# Altium schematic symbol library DSUB_Connector.SchLib: 1 symbol
Pins are listed as number, name and electrical type; pins without a type are passive.

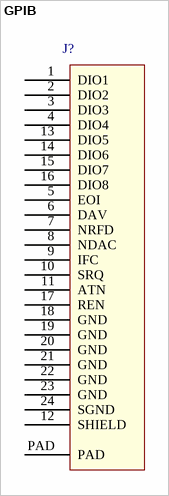
[diagram p0: symbol GPIB]

## GPIB
designator J?  (value not drawn)
112-024-113R001
footprint GPIB THT (DXP://VaultExplorer:Navigate_URL?Plugin=Search&VaultGUID=B7D15EC3-160A-466F-A46C-7801FE6295A7&SavedSearchGUID=&GenericFilter=DXP://VaultExplorer:Navigate_URL?VaultGUID=B7D15EC3-160A-466F-A46C-7801FE6295A7&Plugin=Folders&FolderPath=112-024-113r001&Nav_ForceRefresh:=True&UserDefinedBrowseItemsOption_0:=0&UserDefinedBrowseItemsOption_1:=-1&UserDefinedBrows112-024-113r001)
pins: 1 DIO1, 2 DIO2, 3 DIO3, 4 DIO4, 5 EOI, 6 DAV, 7 NRFD, 8 NDAC, 9 IFC, 10 SRQ, 11 ATN, 12 SHIELD, 13 DIO5, 14 DIO6, 15 DIO7, 16 DIO8, 17 REN, 18 GND, 19 GND, 20 GND, 21 GND, 22 GND, 23 GND, 24 SGND, PAD